# Altium schematic symbol library Switch.SchLib: 2 symbols
Pins are listed as number, name and electrical type; pins without a type are passive.

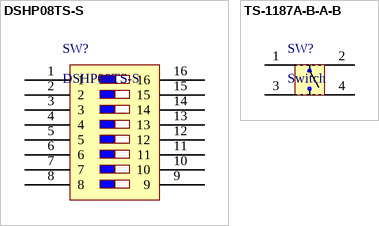
[diagram p0: symbols DSHP08TS-S to TS-1187A-B-A-B]

## DSHP08TS-S
designator SW?
Package: SW-SMD-16_11.78x5.35x1.27P; SuppliersPartNumber: C319047; Suppliers: LC; ComponentLink1Description: Supplier; ComponentLink1URL: https://item.szlcsc.com/300139.html
footprint SW-SMD-16_11.78x5.35x1.27P
pins: 1, 2, 3, 4, 5, 6, 7, 8, 9, 10, 11, 12, 13, 14, 15, 16

## TS-1187A-B-A-B
designator SW?, comment Switch
ComponentLink1Description: Supplier; ComponentLink1URL: https://item.szlcsc.com/299976.html; SuppliersPartNumber: C318884; Supplier: LC; Package: SMD-SW-4_5.1X5.1X1.5
footprint SMD-SW-4_5.1X5.1X1.5
pins: 1, 2, 3, 4